# EAGLE library part IC_CAP1293 (library akita)
Microchip's CAP1293, 3ch touch detector
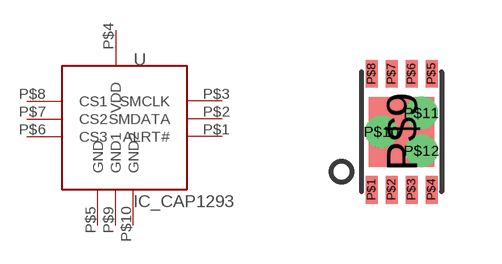
[diagram p166: symbol with the pads of TDFN8; footprint TDFN8]

Designator prefix U

## IC_CAP1293  [TDFN8]
P$1  ALRT#
P$2  SMDATA
P$3  SMCLK
P$4  VDD
P$5  GND
P$6  CS3
P$7  CS2
P$8  CS1
P$9  GND1
P$10  GND2

## Footprint TDFN8 (pad centres in mm)
TDFN8, 2x3mm, 0.5mm pitch
smd 0.3 x 0.7: P$1 -0.75,-1.45; P$2 -0.25,-1.45; P$3 0.25,-1.45; P$4 0.75,-1.45; P$5 0.75,1.45; P$6 0.25,1.45; P$7 -0.25,1.45; P$8 -0.75,1.45
smd 1.63 x 1.75: P$9 0,0
drill 0.3 pad 0.406: P$10 -0.5,0; P$11 0.5,0.473; P$12 0.5,-0.473